# EAGLE library part HDSP4401 (library EW_LCD_display)
LED DISPLAY 1-character dot matrix without decimal point
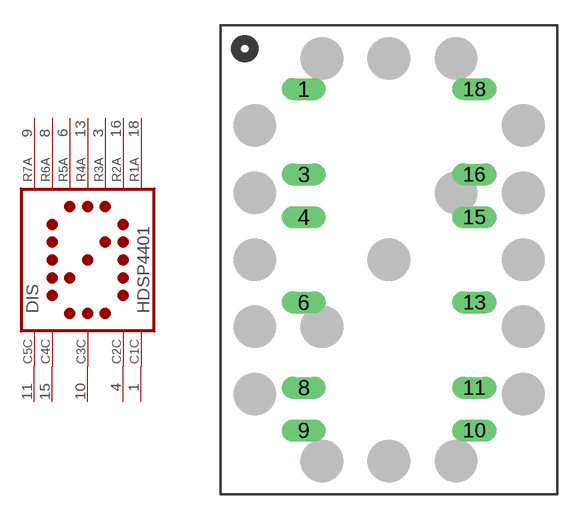
[diagram p5: symbol with the pads of HDSP44; footprint HDSP44]

Designator prefix DIS

## HDSP4401 (OC_FARNELL: unknown; OC_NEWARK: unknown)  [HDSP44]
1  C1C  pas
3  R3A  pas
4  C2C  pas
6  R5A  pas
8  R6A  pas
9  R7A  pas
10  C3C  pas
11  C5C  pas
13  R4A  pas
15  C4C  pas
16  R2A  pas
18  R1A  pas

## Footprint HDSP44 (pad centres in mm)
LED DISPLAY 27-mm 1 character dot matrix without decimal point
drill 0.813 long: 1 -5.08,10.16; 3 -5.08,5.08; 4 -5.08,2.54; 6 -5.08,-2.54; 8 -5.08,-7.62; 9 -5.08,-10.16; 10 5.08,-10.16; 11 5.08,-7.62; 13 5.08,-2.54; 15 5.08,2.54; 16 5.08,5.08; 18 5.08,10.16